# Altium footprint library Sullins.PcbLib: 4 footprints
Each footprint in its own frame and in the unit in brackets; x right, y up, seen from the top. Pads: shape width x height; smd on the part's side, far side on the other; paste and mask are expansions set on the pad; w line width, h text height; cw(c..) or ccw(c..) is an arc to the next point about the centre after c.
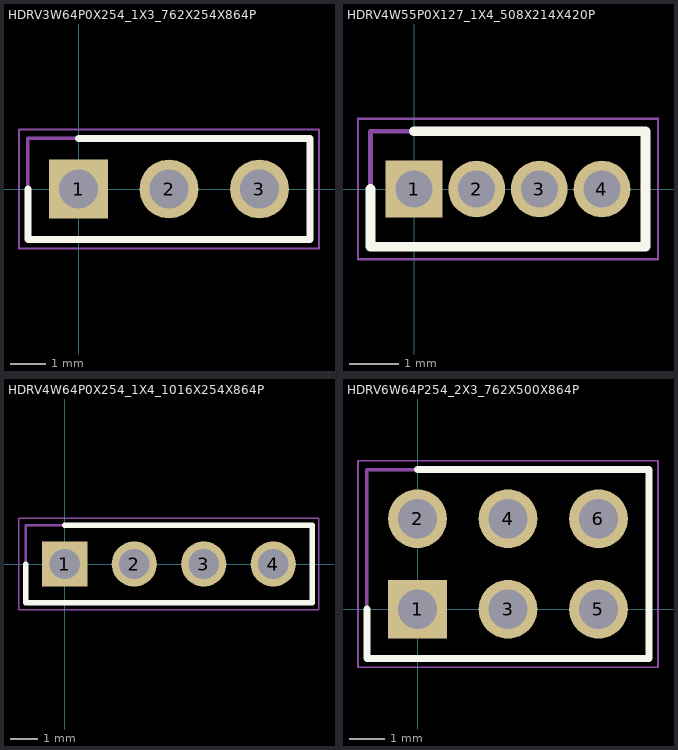
[diagram p0: the footprints below, top view; thin cyan lines are the x and y axes]

## HDRV3W64P0X254_1X3_762X254X864P [mm]
pads (3):
  rect 1.65x1.65 hole 1.1: 1(0,0)
  round 1.65 hole 1.1: 2(2.54,0) 3(5.08,0)
Top Overlay:
  lines w0.2: -1.42,0 -1.42,-1.42 6.5,-1.42 6.5,1.42 0,1.42
Mechanical 13:
  lines w0.1: -1.42,-1.42 -1.42,1.42 6.5,1.42 6.5,-1.42 -1.42,-1.42
Mechanical 15:
  lines w0.05: -1.67,-1.67 -1.67,1.67 6.75,1.67 6.75,-1.67 -1.67,-1.67
3D body "PRPC003SAAN-RC.stp": height 8.64, standoff -3.35, extent -1.27,-1.27 6.35,1.27

## HDRV4W55P0X127_1X4_508X214X420P [mm]
pads (4):
  rect 1.15x1.15 hole 0.75: 1(0,0)
  round 1.15 hole 0.75: 2(1.27,0) 3(2.54,0) 4(3.81,0)
Top Overlay:
  lines w0.2: -0.885,0 -0.885,-1.17 4.695,-1.17 4.695,1.17 0,1.17
Mechanical 13:
  lines w0.1: -0.885,-1.17 -0.885,1.17 4.695,1.17 4.695,-1.17 -0.885,-1.17
Mechanical 15:
  lines w0.05: -1.135,-1.42 -1.135,1.42 4.945,1.42 4.945,-1.42 -1.135,-1.42
3D body "GRPB041VWVN-RC.stp": height 4.2, standoff -2.5, extent -0.635,-1.07 4.445,1.07

## HDRV4W64P0X254_1X4_1016X254X864P [mm]
pads (4):
  rect 1.65x1.65 hole 1.1: 1(0,0)
  round 1.65 hole 1.1: 2(2.54,0) 3(5.08,0) 4(7.62,0)
Top Overlay:
  lines w0.2: -1.42,0 -1.42,-1.42 9.04,-1.42 9.04,1.42 0,1.42
Mechanical 13:
  lines w0.1: -1.42,-1.42 -1.42,1.42 9.04,1.42 9.04,-1.42 -1.42,-1.42
Mechanical 15:
  lines w0.05: -1.67,-1.67 -1.67,1.67 9.29,1.67 9.29,-1.67 -1.67,-1.67
3D body "PRPC004SAAN-RC.stp": height 8.64, standoff -3.35, extent -1.27,-1.27 8.89,1.27

## HDRV6W64P254_2X3_762X500X864P [mm]
pads (6):
  rect 1.65x1.65 hole 1.1: 1(0,0)
  round 1.65 hole 1.1: 2(0,2.54) 3(2.54,0) 4(2.54,2.54) 5(5.08,0) 6(5.08,2.54)
Top Overlay:
  lines w0.2: -1.42,0 -1.42,-1.38 6.5,-1.38 6.5,3.92 0,3.92
Mechanical 13:
  lines w0.1: -1.42,-1.38 -1.42,3.92 6.5,3.92 6.5,-1.38 -1.42,-1.38
Mechanical 15:
  lines w0.05: -1.67,-1.63 -1.67,4.17 6.75,4.17 6.75,-1.63 -1.67,-1.63
3D body "PRPC003DAAN-RC.stp": height 8.64, standoff -3.35, extent -1.27,-1.23 6.35,3.77